# Altium schematic symbol library MCU 8Bit AVR Tiny.SchLib: 47 symbols
Pins are listed as number, name and electrical type; pins without a type are passive.

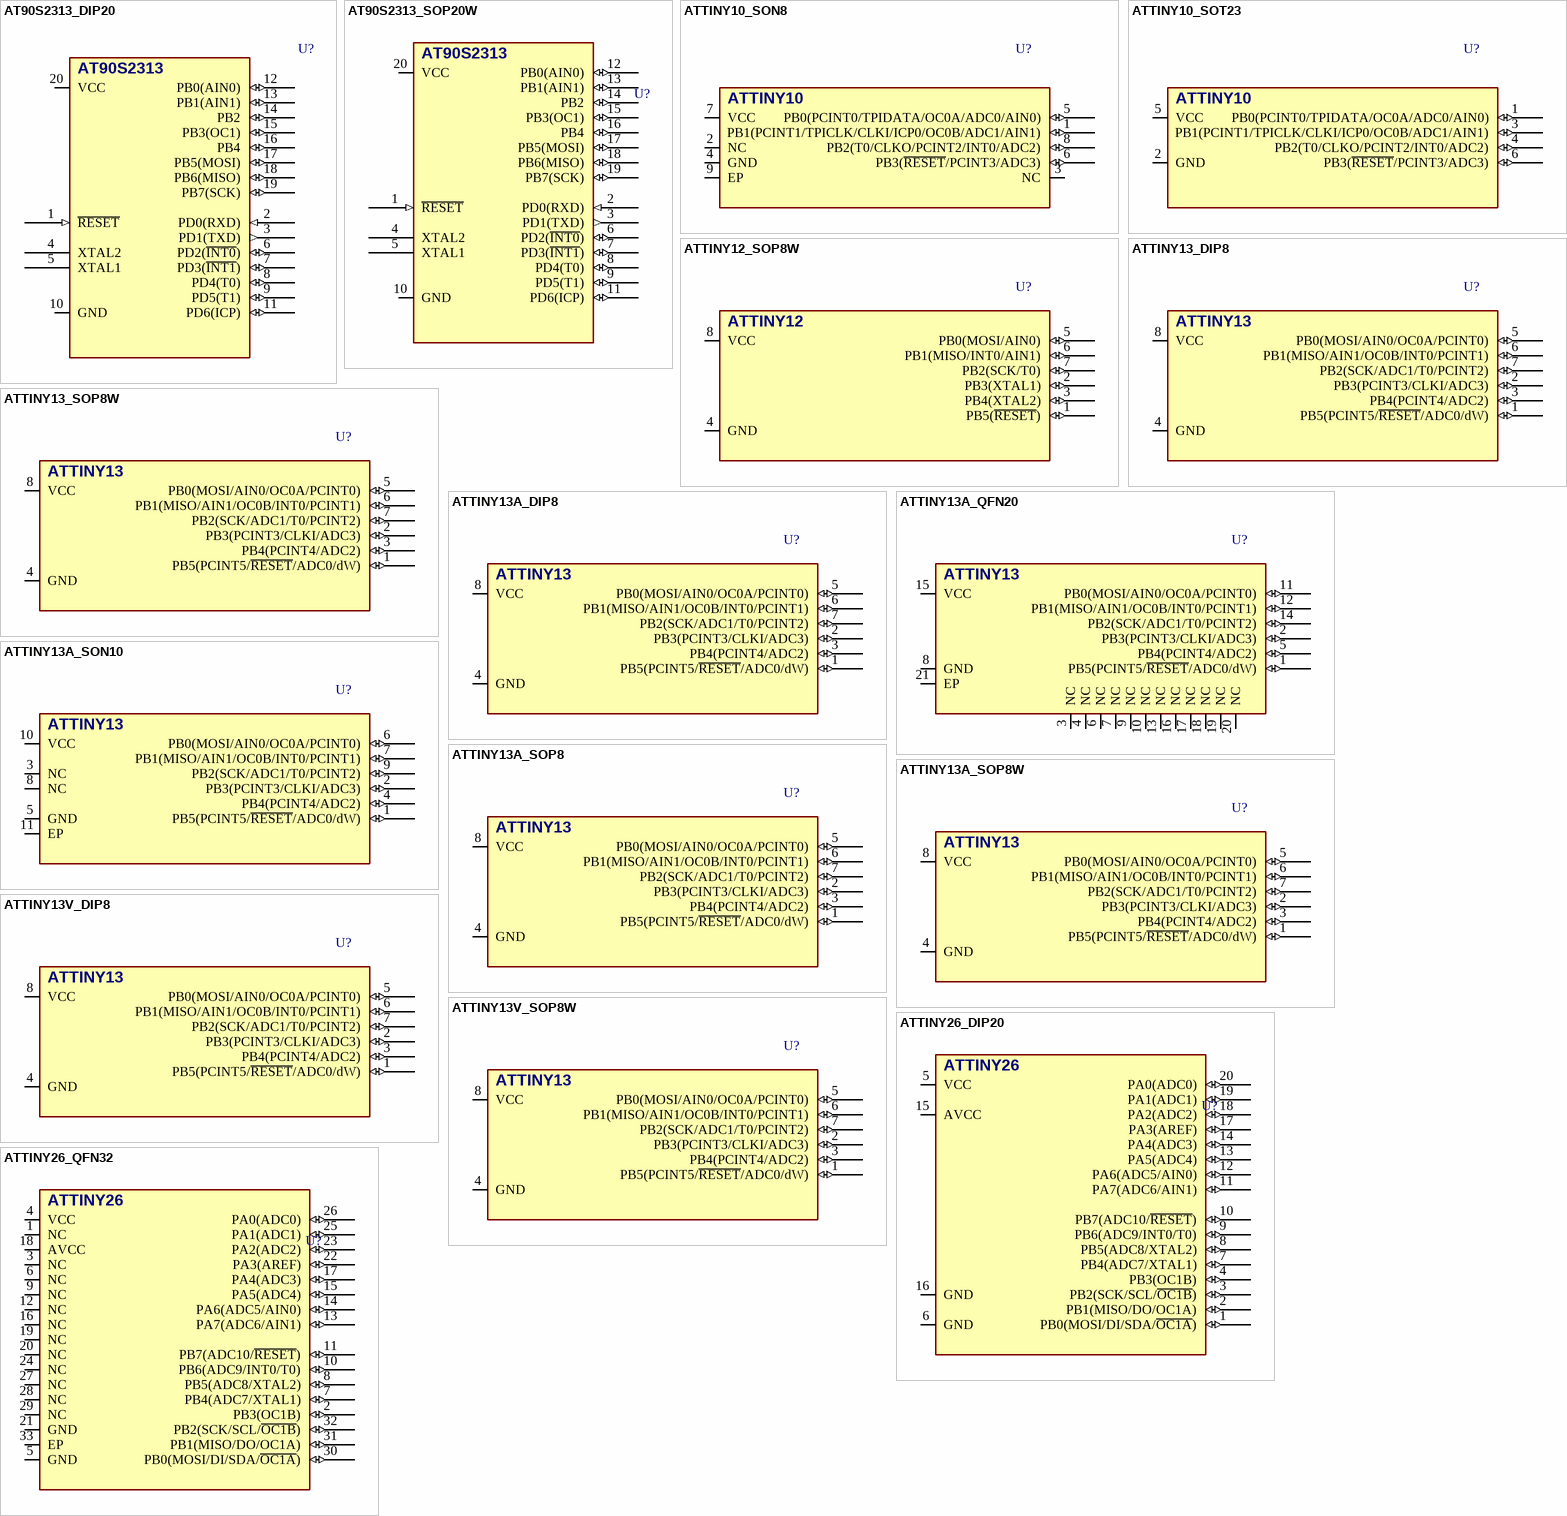
[diagram p0: symbols AT90S2313_DIP20 to ATTINY26_QFN32]

## AT90S2313_DIP20
designator U?, comment AT90S2313  (value not drawn)
MCU, AVR, 8-Bit, 2KB, 128B RAM, 10MHz; MANF_P#: AT90S2313-10PI; DESC: AT90S1200, ATTINY26; MANF: ATMEL/MICROCHIP; PARAM2: 4~6V; PARAM: 2KB flash, 4KB, 128B RAM, -40~85°C; PRICE: Obsolete; VALUE: AT90S2313
footprint DIP_20 (DIP, pitch 2.54mm, 300mil Width)
pins: 1 ~{RESET} (in), 2 PD0(RXD) (in), 3 PD1(TXD) (out), 4 XTAL2, 5 XTAL1, 6 PD2(~{INT0}) (io), 7 PD3(~{INT1}) (io), 8 PD4(T0) (io), 9 PD5(T1) (io), 10 GND (power), 11 PD6(ICP) (io), 12 PB0(AIN0) (io), 13 PB1(AIN1) (io), 14 PB2 (io), 15 PB3(OC1) (io), 16 PB4 (io), 17 PB5(MOSI) (io), 18 PB6(MISO) (io), 19 PB7(SCK) (io), 20 VCC (power)

## AT90S2313_SOP20W
designator U?, comment AT90S2313  (value not drawn)
MCU, AVR, 8-Bit, 2KB, 128B RAM, 10MHz; MANF_P#: AT90S2313-10SC; DESC: AT90S1200, ATTINY26; MANF: ATMEL/MICROCHIP; PARAM2: 4~6V; PARAM: 2KB flash, 4KB, 128B RAM, 0~70°C; PRICE: Obsolete; VALUE: AT90S2313
footprint SO_20_W
pins: 1 ~{RESET} (in), 2 PD0(RXD) (in), 3 PD1(TXD) (out), 4 XTAL2, 5 XTAL1, 6 PD2(~{INT0}) (io), 7 PD3(~{INT1}) (io), 8 PD4(T0) (io), 9 PD5(T1) (io), 10 GND (power), 11 PD6(ICP) (io), 12 PB0(AIN0) (io), 13 PB1(AIN1) (io), 14 PB2 (io), 15 PB3(OC1) (io), 16 PB4 (io), 17 PB5(MOSI) (io), 18 PB6(MISO) (io), 19 PB7(SCK) (io), 20 VCC (power)

## ATTINY10_SON8
designator U?, comment ATTINY10  (value not drawn)
MCU, AVR, 8-Bit, 1KB, 32B RAM, 12MHz; MANF_P#: ATTINY10-MAHR; MANF: ATMEL/MICROCHIP; PARAM2: 1.8~5.5V; PARAM: 1KB, 32B RAM, -40~125°C; PRICE: 0.6$; VALUE: ATTINY10
footprint SON50_8T_2X2 (DSG PWSON (TI), Pitch: 0.5mm 2x2x0.8mm with Thermal pad)
pins: 1 PB1(PCINT1/TPICLK/CLKI/ICP0/OC0B/ADC1/AIN1) (io), 2 NC (power), 3 NC (power), 4 GND (power), 5 PB0(PCINT0/TPIDATA/OC0A/ADC0/AIN0) (io), 6 PB3(~{RESET}/PCINT3/ADC3) (io), 7 VCC (power), 8 PB2(T0/CLKO/PCINT2/INT0/ADC2) (io), 9 EP (power)

## ATTINY10_SOT23
designator U?, comment ATTINY10  (value not drawn)
MCU, AVR, 8-Bit, 1KB, 32B RAM, 12MHz; MANF_P#: ATTINY10-TSHR; MANF: ATMEL/MICROCHIP; PARAM2: 1.8~5.5V; PARAM: 1KB, 32B RAM, -40~85°C; PRICE: 0.35$; VALUE: ATTINY10
footprint SOT23_6 (SOT-23-6, MICRO6, SOT-26, SOT457, SuperSOT6, TSOP-6, HMC313, MO-178AB, MO-193AA, TSOT)
pins: 1 PB0(PCINT0/TPIDATA/OC0A/ADC0/AIN0) (io), 2 GND (power), 3 PB1(PCINT1/TPICLK/CLKI/ICP0/OC0B/ADC1/AIN1) (io), 4 PB2(T0/CLKO/PCINT2/INT0/ADC2) (io), 5 VCC (power), 6 PB3(~{RESET}/PCINT3/ADC3) (io)

## ATTINY12_SOP8W
designator U?, comment ATTINY12  (value not drawn)
MCU, AVR, 8-Bit, 1KB, 64B RAM, 8MHz; MANF_P#: ATTINY12-8SU; MANF: ATMEL/MICROCHIP; PARAM2: 4~5.5V; PARAM: 1KB, 64B RAM, -40~125°C; PRICE: 1.2$; VALUE: ATTINY12
footprint SO_8_W (SOIC Width, 5x5.3mm body 0.5mm pitch, 5.28mm SOIJ)
pins: 1 PB5(~{RESET}) (io), 2 PB3(XTAL1) (io), 3 PB4(XTAL2) (io), 4 GND (power), 5 PB0(MOSI/AIN0) (io), 6 PB1(MISO/INT0/AIN1) (io), 7 PB2(SCK/T0) (io), 8 VCC (power)

## ATTINY13_DIP8
designator U?, comment ATTINY13  (value not drawn)
MCU, AVR, 8-Bit, 1KB, 64B RAM, 20MHz; MANF_P#: ATTINY13-20PU; MANF: ATMEL/MICROCHIP; PARAM2: 2.7~5.5V; PARAM: 1KB, 64B RAM, -40~85°C; PRICE: 1.2$; VALUE: ATTINY13
footprint DIP_8 (DIP, pitch 2.54mm, 300mil Width)
pins: 1 PB5(PCINT5/~{RESET}/ADC0/dW) (io), 2 PB3(PCINT3/CLKI/ADC3) (io), 3 PB4(PCINT4/ADC2) (io), 4 GND (power), 5 PB0(MOSI/AIN0/OC0A/PCINT0) (io), 6 PB1(MISO/AIN1/OC0B/INT0/PCINT1) (io), 7 PB2(SCK/ADC1/T0/PCINT2) (io), 8 VCC (power)

## ATTINY13_SOP8W
designator U?, comment ATTINY13  (value not drawn)
MCU, AVR, 8-Bit, 1KB, 64B RAM, 20MHz; MANF_P#: ATTINY13-20SU; MANF: ATMEL/MICROCHIP; PARAM2: 2.7~5.5V; PARAM: 1KB, 64B RAM, -40~85°C; PRICE: 0.9$; VALUE: ATTINY13
footprint SO_8_W (SOIC Width, 5x5.3mm body 0.5mm pitch, 5.28mm SOIJ)
pins: 1 PB5(PCINT5/~{RESET}/ADC0/dW) (io), 2 PB3(PCINT3/CLKI/ADC3) (io), 3 PB4(PCINT4/ADC2) (io), 4 GND (power), 5 PB0(MOSI/AIN0/OC0A/PCINT0) (io), 6 PB1(MISO/AIN1/OC0B/INT0/PCINT1) (io), 7 PB2(SCK/ADC1/T0/PCINT2) (io), 8 VCC (power)

## ATTINY13A_DIP8
designator U?, comment ATTINY13  (value not drawn)
MCU, AVR, 8-Bit, 1KB, 64B RAM, 20MHz; MANF_P#: ATTINY13A-PU; MANF: ATMEL/MICROCHIP; PARAM2: 1.8~5.5V; PARAM: 1KB, 64B RAM, -40~85°C; PRICE: 0.9$; VALUE: ATTINY13
footprint DIP_8 (DIP, pitch 2.54mm, 300mil Width)
pins: 1 PB5(PCINT5/~{RESET}/ADC0/dW) (io), 2 PB3(PCINT3/CLKI/ADC3) (io), 3 PB4(PCINT4/ADC2) (io), 4 GND (power), 5 PB0(MOSI/AIN0/OC0A/PCINT0) (io), 6 PB1(MISO/AIN1/OC0B/INT0/PCINT1) (io), 7 PB2(SCK/ADC1/T0/PCINT2) (io), 8 VCC (power)

## ATTINY13A_QFN20
designator U?, comment ATTINY13  (value not drawn)
MCU, AVR, 8-Bit, 1KB, 64B RAM, 20MHz; MANF_P#: ATTINY13A-MU; MANF: ATMEL/MICROCHIP; PARAM2: 1.8~5.5V; PARAM: 1KB, 64B RAM, -40~85°C; PRICE: 0.8$; VALUE: ATTINY13
footprint QFN50_20T (QFN, 20, 4X4mm, 0.5mm)
pins: 1 PB5(PCINT5/~{RESET}/ADC0/dW) (io), 2 PB3(PCINT3/CLKI/ADC3) (io), 3 NC, 4 NC, 5 PB4(PCINT4/ADC2) (io), 6 NC, 7 NC, 8 GND (power), 9 NC, 10 NC, 11 PB0(MOSI/AIN0/OC0A/PCINT0) (io), 12 PB1(MISO/AIN1/OC0B/INT0/PCINT1) (io), 13 NC, 14 PB2(SCK/ADC1/T0/PCINT2) (io), 15 VCC (power), 16 NC, 17 NC, 18 NC, 19 NC, 20 NC, 21 EP

## ATTINY13A_SON10
designator U?, comment ATTINY13  (value not drawn)
MCU, AVR, 8-Bit, 1KB, 64B RAM, 20MHz; MANF_P#: ATTINY13A-MMU; MANF: ATMEL/MICROCHIP; PARAM2: 1.8~5.5V; PARAM: 1KB, 64B RAM, -40~85°C; PRICE: 0.8$; VALUE: ATTINY13
footprint SON50_10T_3X3 (DRC SON(TI), 10 TDFN (MAXIM), 3X3mm, Pitch: 0.5mm with thermal pad)
pins: 1 PB5(PCINT5/~{RESET}/ADC0/dW) (io), 2 PB3(PCINT3/CLKI/ADC3) (io), 3 NC, 4 PB4(PCINT4/ADC2) (io), 5 GND (power), 6 PB0(MOSI/AIN0/OC0A/PCINT0) (io), 7 PB1(MISO/AIN1/OC0B/INT0/PCINT1) (io), 8 NC, 9 PB2(SCK/ADC1/T0/PCINT2) (io), 10 VCC (power), 11 EP

## ATTINY13A_SOP8
designator U?, comment ATTINY13  (value not drawn)
MCU, AVR, 8-Bit, 1KB, 64B RAM, 20MHz; MANF_P#: ATTINY13A-SSU, ATTINY13A-SSH; MANF: ATMEL/MICROCHIP; PARAM2: 1.8~5.5V; PARAM: 1KB, 64B RAM, -40~85°C; PRICE: 0.9$; VALUE: ATTINY13
footprint SO_8 (SOP-8, 5x3.9mm body 1.27mm pitch, SOT96-1, M08A, S8, SOIC8, VO8, MS-012AA(JEDEC), R-8, 8S2, VOG8)
pins: 1 PB5(PCINT5/~{RESET}/ADC0/dW) (io), 2 PB3(PCINT3/CLKI/ADC3) (io), 3 PB4(PCINT4/ADC2) (io), 4 GND (power), 5 PB0(MOSI/AIN0/OC0A/PCINT0) (io), 6 PB1(MISO/AIN1/OC0B/INT0/PCINT1) (io), 7 PB2(SCK/ADC1/T0/PCINT2) (io), 8 VCC (power)

## ATTINY13A_SOP8W
designator U?, comment ATTINY13  (value not drawn)
MCU, AVR, 8-Bit, 1KB, 64B RAM, 20MHz; MANF_P#: ATTINY13A-SU; MANF: ATMEL/MICROCHIP; PARAM2: 1.8~5.5V; PARAM: 1KB, 64B RAM, -40~85°C; PRICE: 0.9$; VALUE: ATTINY13
footprint SO_8_W (SOIC Width, 5x5.3mm body 0.5mm pitch, 5.28mm SOIJ)
pins: 1 PB5(PCINT5/~{RESET}/ADC0/dW) (io), 2 PB3(PCINT3/CLKI/ADC3) (io), 3 PB4(PCINT4/ADC2) (io), 4 GND (power), 5 PB0(MOSI/AIN0/OC0A/PCINT0) (io), 6 PB1(MISO/AIN1/OC0B/INT0/PCINT1) (io), 7 PB2(SCK/ADC1/T0/PCINT2) (io), 8 VCC (power)

## ATTINY13V_DIP8
designator U?, comment ATTINY13  (value not drawn)
MCU, AVR, 8-Bit, 1KB, 64B RAM, 10MHz; MANF_P#: ATTINY13V-10PU; MANF: ATMEL/MICROCHIP; PARAM2: 1.8~5.5V; PARAM: 1KB, 64B RAM, -40~85°C; PRICE: 1.2$; VALUE: ATTINY13
footprint DIP_8 (DIP, pitch 2.54mm, 300mil Width)
pins: 1 PB5(PCINT5/~{RESET}/ADC0/dW) (io), 2 PB3(PCINT3/CLKI/ADC3) (io), 3 PB4(PCINT4/ADC2) (io), 4 GND (power), 5 PB0(MOSI/AIN0/OC0A/PCINT0) (io), 6 PB1(MISO/AIN1/OC0B/INT0/PCINT1) (io), 7 PB2(SCK/ADC1/T0/PCINT2) (io), 8 VCC (power)

## ATTINY13V_SOP8W
designator U?, comment ATTINY13  (value not drawn)
MCU, AVR, 8-Bit, 1KB, 64B RAM, 10MHz; MANF_P#: ATTINY13V-10SU; MANF: ATMEL/MICROCHIP; PARAM2: 1.8~5.5V; PARAM: 1KB, 64B RAM, -40~85°C; PRICE: 0.9$; VALUE: ATTINY13
footprint SO_8_W (SOIC Width, 5x5.3mm body 0.5mm pitch, 5.28mm SOIJ)
pins: 1 PB5(PCINT5/~{RESET}/ADC0/dW) (io), 2 PB3(PCINT3/CLKI/ADC3) (io), 3 PB4(PCINT4/ADC2) (io), 4 GND (power), 5 PB0(MOSI/AIN0/OC0A/PCINT0) (io), 6 PB1(MISO/AIN1/OC0B/INT0/PCINT1) (io), 7 PB2(SCK/ADC1/T0/PCINT2) (io), 8 VCC (power)

## ATTINY26_DIP20
designator U?, comment ATTINY26  (value not drawn)
MCU, AVR, 8-Bit, 2KB, 128B RAM, 16MHz; MANF_P#: ATTINY26-16PU; MANF: ATMEL/MICROCHIP; PARAM2: 4.5~5.5V; PARAM: 2KB flash, 128B RAM, -40~85°C; PRICE: 2$; VALUE: ATTINY26
footprint DIP_20 (DIP, pitch 2.54mm, 300mil Width)
pins: 1 PB0(MOSI/DI/SDA/~{OC1A}) (io), 2 PB1(MISO/DO/OC1A) (io), 3 PB2(SCK/SCL/~{OC1B}) (io), 4 PB3(OC1B) (io), 5 VCC (power), 6 GND (power), 7 PB4(ADC7/XTAL1) (io), 8 PB5(ADC8/XTAL2) (io), 9 PB6(ADC9/INT0/T0) (io), 10 PB7(ADC10/~{RESET}) (io), 11 PA7(ADC6/AIN1) (io), 12 PA6(ADC5/AIN0) (io), 13 PA5(ADC4) (io), 14 PA4(ADC3) (io), 15 AVCC (power), 16 GND (power), 17 PA3(AREF) (io), 18 PA2(ADC2) (io), 19 PA1(ADC1) (io), 20 PA0(ADC0) (io)

## ATTINY26_QFN32
designator U?, comment ATTINY26  (value not drawn)
MCU, AVR, 8-Bit, 2KB, 128B RAM, 16MHz; MANF_P#: ATTINY26-16MU; MANF: ATMEL/MICROCHIP; PARAM2: 4.5~5.5V; PARAM: 2KB flash, 128B RAM, -40~85°C; PRICE: 2$; VALUE: ATTINY26
footprint QFN50_32T (QFN, 32, 5X5mm, 0.5mm)
pins: 1 NC (power), 2 PB3(OC1B) (io), 3 NC (power), 4 VCC (power), 5 GND (power), 6 NC (power), 7 PB4(ADC7/XTAL1) (io), 8 PB5(ADC8/XTAL2) (io), 9 NC (power), 10 PB6(ADC9/INT0/T0) (io), 11 PB7(ADC10/~{RESET}) (io), 12 NC (power), 13 PA7(ADC6/AIN1) (io), 14 PA6(ADC5/AIN0) (io), 15 PA5(ADC4) (io), 16 NC (power), 17 PA4(ADC3) (io), 18 AVCC (power), 19 NC (power), 20 NC (power), 21 GND (power), 22 PA3(AREF) (io), 23 PA2(ADC2) (io), 24 NC (power), 25 PA1(ADC1) (io), 26 PA0(ADC0) (io), 27 NC (power), 28 NC (power), 29 NC (power), 30 PB0(MOSI/DI/SDA/~{OC1A}) (io), 31 PB1(MISO/DO/OC1A) (io), 32 PB2(SCK/SCL/~{OC1B}) (io), 33 EP

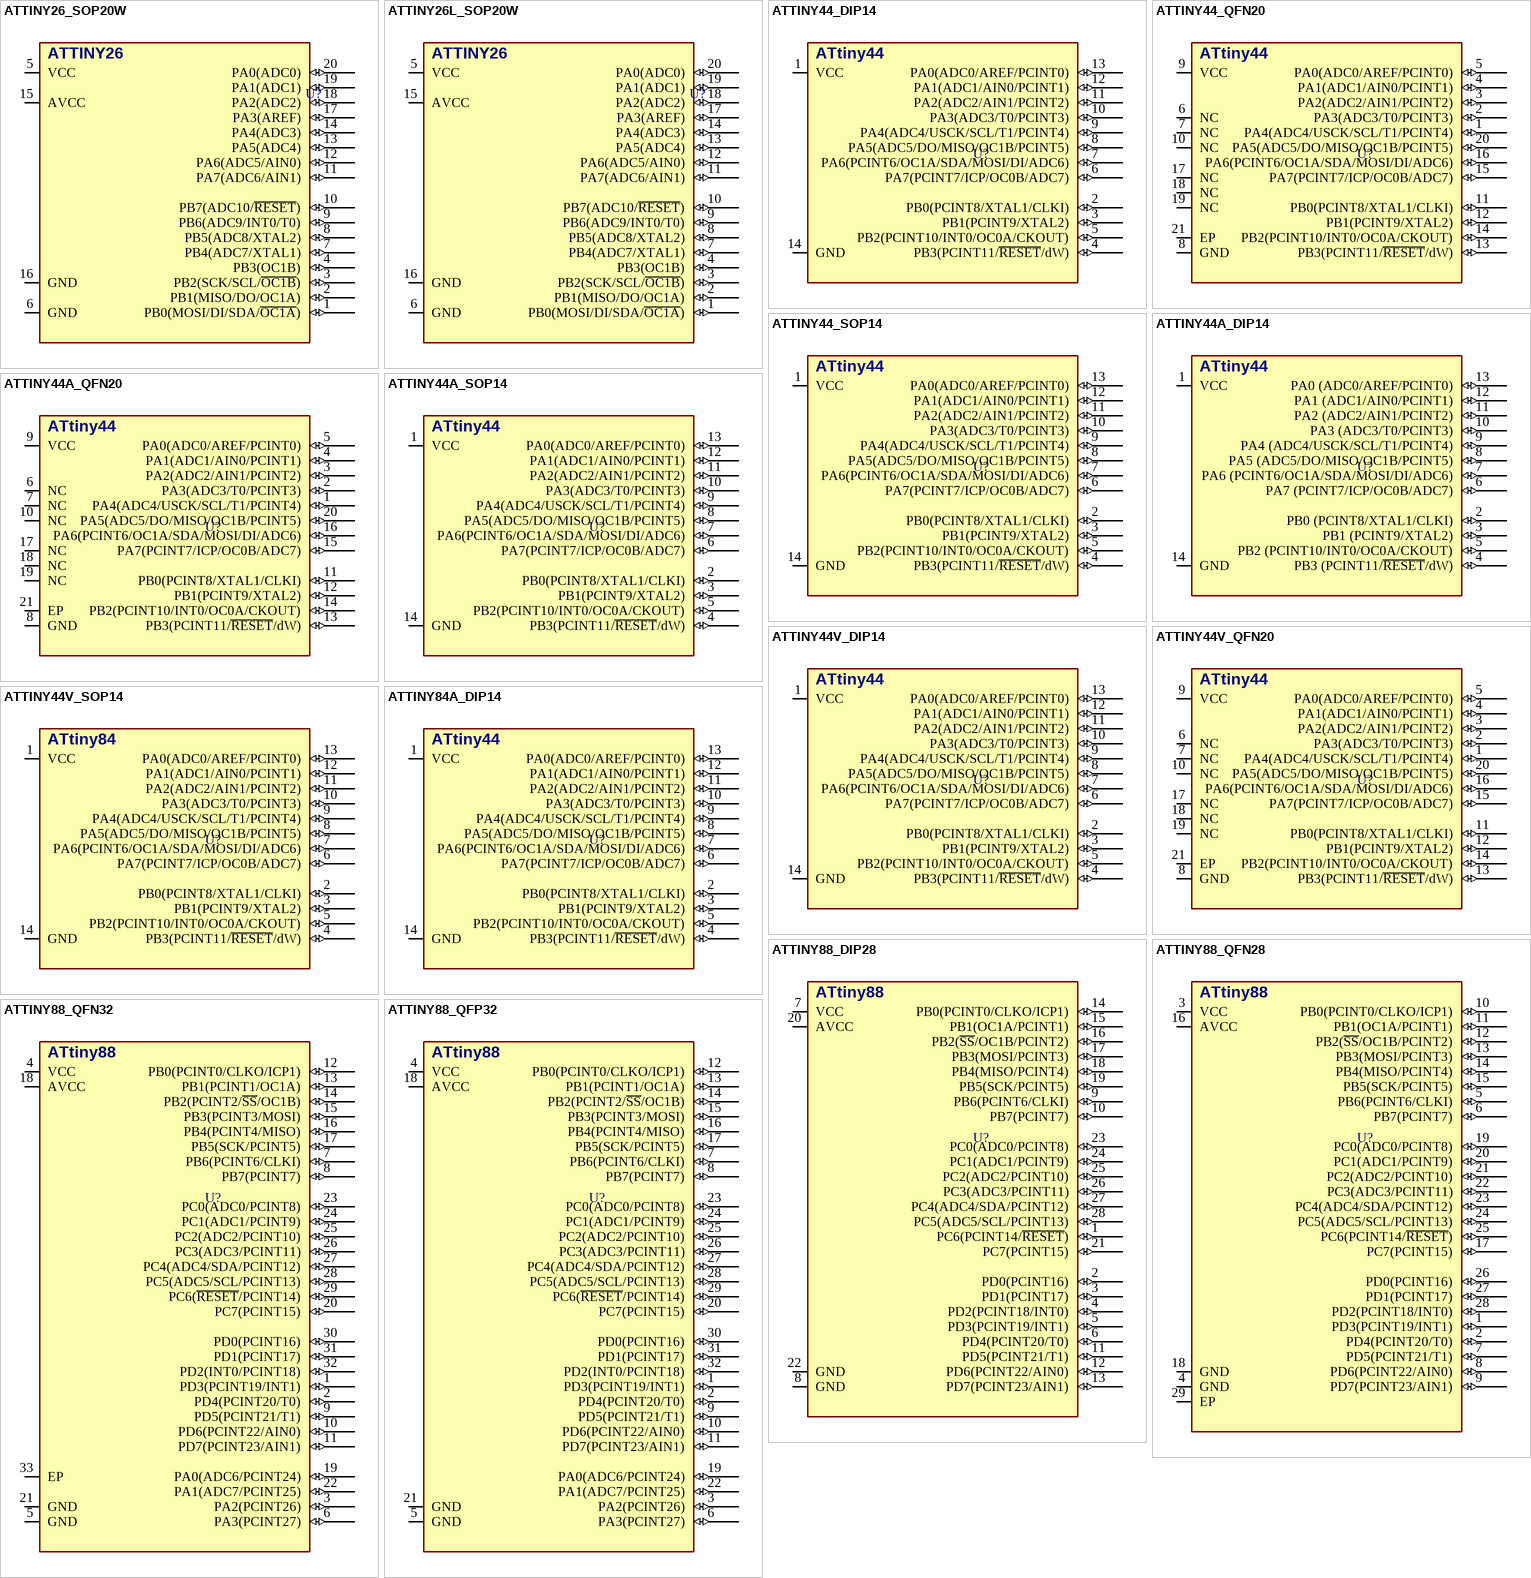
[diagram p1: symbols ATTINY26_SOP20W to ATTINY88_QFP32]

## ATTINY26_SOP20W
designator U?, comment ATTINY26  (value not drawn)
MCU, AVR, 8-Bit, 2KB, 128B RAM, 16MHz; MANF_P#: ATTINY26-16SU; MANF: ATMEL/MICROCHIP; PARAM2: 4.5~5.5V; PARAM: 2KB flash, 128B RAM, -40~85°C; PRICE: 2$; VALUE: ATTINY26
footprint SO_20_W (SOP, SOIC, 7.5mm width, 1.27mm pitch,)
pins: 1 PB0(MOSI/DI/SDA/~{OC1A}) (io), 2 PB1(MISO/DO/OC1A) (io), 3 PB2(SCK/SCL/~{OC1B}) (io), 4 PB3(OC1B) (io), 5 VCC (power), 6 GND (power), 7 PB4(ADC7/XTAL1) (io), 8 PB5(ADC8/XTAL2) (io), 9 PB6(ADC9/INT0/T0) (io), 10 PB7(ADC10/~{RESET}) (io), 11 PA7(ADC6/AIN1) (io), 12 PA6(ADC5/AIN0) (io), 13 PA5(ADC4) (io), 14 PA4(ADC3) (io), 15 AVCC (power), 16 GND (power), 17 PA3(AREF) (io), 18 PA2(ADC2) (io), 19 PA1(ADC1) (io), 20 PA0(ADC0) (io)

## ATTINY26L_SOP20W
designator U?, comment ATTINY26  (value not drawn)
MCU, AVR, 8-Bit, 2KB, 128B RAM, 8MHz; MANF_P#: ATTINY26L-8SU; MANF: ATMEL/MICROCHIP; PARAM2: 2.7~5.5V; PARAM: 2KB flash, 128B RAM, -40~85°C; PRICE: 2$; VALUE: ATTINY26
footprint SO_20_W (SOP, SOIC, 7.5mm width, 1.27mm pitch,)
pins: 1 PB0(MOSI/DI/SDA/~{OC1A}) (io), 2 PB1(MISO/DO/OC1A) (io), 3 PB2(SCK/SCL/~{OC1B}) (io), 4 PB3(OC1B) (io), 5 VCC (power), 6 GND (power), 7 PB4(ADC7/XTAL1) (io), 8 PB5(ADC8/XTAL2) (io), 9 PB6(ADC9/INT0/T0) (io), 10 PB7(ADC10/~{RESET}) (io), 11 PA7(ADC6/AIN1) (io), 12 PA6(ADC5/AIN0) (io), 13 PA5(ADC4) (io), 14 PA4(ADC3) (io), 15 AVCC (power), 16 GND (power), 17 PA3(AREF) (io), 18 PA2(ADC2) (io), 19 PA1(ADC1) (io), 20 PA0(ADC0) (io)

## ATTINY44_DIP14
designator U?, comment ATTINY44  (value not drawn)
MCU, AVR, 8-Bit, 4KB, 256B RAM, 20MHz; MANF_P#: ATTINY44-20PU; MANF: ATMEL/MICROCHIP; PARAM2: 2.7~5.5V; PARAM: 4KB, 256B RAM, -40~85°C; PRICE: 1.8$; VALUE: ATTINY44
footprint DIP_14 (DIP, pitch 2.54mm, 300mil Width)
pins: 1 VCC (power), 2 PB0(PCINT8/XTAL1/CLKI) (io), 3 PB1(PCINT9/XTAL2) (io), 4 PB3(PCINT11/~{RESET}/dW) (io), 5 PB2(PCINT10/INT0/OC0A/CKOUT) (io), 6 PA7(PCINT7/ICP/OC0B/ADC7) (io), 7 PA6(PCINT6/OC1A/SDA/MOSI/DI/ADC6) (io), 8 PA5(ADC5/DO/MISO/OC1B/PCINT5) (io), 9 PA4(ADC4/USCK/SCL/T1/PCINT4) (io), 10 PA3(ADC3/T0/PCINT3) (io), 11 PA2(ADC2/AIN1/PCINT2) (io), 12 PA1(ADC1/AIN0/PCINT1) (io), 13 PA0(ADC0/AREF/PCINT0) (io), 14 GND (power)
text: ATtiny44

## ATTINY44_QFN20
designator U?, comment ATTINY44  (value not drawn)
MCU, AVR, 8-Bit, 4KB, 256B RAM, 20MHz; MANF_P#: ATTINY44-20MU; MANF: ATMEL/MICROCHIP; PARAM2: 2.7~5.5V; PARAM: 4KB, 256B RAM, -40~85°C; PRICE: 1.8$; VALUE: ATTINY44
footprint QFN50_20T (QFN, 20, 4X4mm, 0.5mm)
pins: 1 PA4(ADC4/USCK/SCL/T1/PCINT4) (io), 2 PA3(ADC3/T0/PCINT3) (io), 3 PA2(ADC2/AIN1/PCINT2) (io), 4 PA1(ADC1/AIN0/PCINT1) (io), 5 PA0(ADC0/AREF/PCINT0) (io), 6 NC, 7 NC, 8 GND (power), 9 VCC (power), 10 NC, 11 PB0(PCINT8/XTAL1/CLKI) (io), 12 PB1(PCINT9/XTAL2) (io), 13 PB3(PCINT11/~{RESET}/dW) (io), 14 PB2(PCINT10/INT0/OC0A/CKOUT) (io), 15 PA7(PCINT7/ICP/OC0B/ADC7) (io), 16 PA6(PCINT6/OC1A/SDA/MOSI/DI/ADC6) (io), 17 NC, 18 NC, 19 NC, 20 PA5(ADC5/DO/MISO/OC1B/PCINT5) (io), 21 EP (power)
text: ATtiny44

## ATTINY44_SOP14
designator U?, comment ATTINY44  (value not drawn)
MCU, AVR, 8-Bit, 4KB, 256B RAM, 20MHz; MANF_P#: ATTINY44-20SSU; MANF: ATMEL/MICROCHIP; PARAM2: 2.7~5.5V; PARAM: 4KB, 256B RAM, -40~85°C; PRICE: 1.8$; VALUE: ATTINY44
footprint SO_14 (SOP, SOIC, 3.9mm width, 1.27mm pitch,)
pins: 1 VCC (power), 2 PB0(PCINT8/XTAL1/CLKI) (io), 3 PB1(PCINT9/XTAL2) (io), 4 PB3(PCINT11/~{RESET}/dW) (io), 5 PB2(PCINT10/INT0/OC0A/CKOUT) (io), 6 PA7(PCINT7/ICP/OC0B/ADC7) (io), 7 PA6(PCINT6/OC1A/SDA/MOSI/DI/ADC6) (io), 8 PA5(ADC5/DO/MISO/OC1B/PCINT5) (io), 9 PA4(ADC4/USCK/SCL/T1/PCINT4) (io), 10 PA3(ADC3/T0/PCINT3) (io), 11 PA2(ADC2/AIN1/PCINT2) (io), 12 PA1(ADC1/AIN0/PCINT1) (io), 13 PA0(ADC0/AREF/PCINT0) (io), 14 GND (power)
text: ATtiny44

## ATTINY44A_DIP14
designator U?, comment ATTINY44  (value not drawn)
MCU, AVR, 8-Bit, 4KB, 256B RAM, 20MHz; MANF_P#: ATTINY44A-PU; MANF: ATMEL/MICROCHIP; PARAM2: 1.8~5.5V; PARAM: 4KB, 256B RAM, -40~85°C; PRICE: 1.1$; VALUE: ATTINY44
footprint DIP_14 (DIP, pitch 2.54mm, 300mil Width)
pins: 1 VCC (power), 2 PB0 (PCINT8/XTAL1/CLKI) (io), 3 PB1 (PCINT9/XTAL2) (io), 4 PB3 (PCINT11/~{RESET}/dW) (io), 5 PB2 (PCINT10/INT0/OC0A/CKOUT) (io), 6 PA7 (PCINT7/ICP/OC0B/ADC7) (io), 7 PA6 (PCINT6/OC1A/SDA/MOSI/DI/ADC6) (io), 8 PA5 (ADC5/DO/MISO/OC1B/PCINT5) (io), 9 PA4 (ADC4/USCK/SCL/T1/PCINT4) (io), 10 PA3 (ADC3/T0/PCINT3) (io), 11 PA2 (ADC2/AIN1/PCINT2) (io), 12 PA1 (ADC1/AIN0/PCINT1) (io), 13 PA0 (ADC0/AREF/PCINT0) (io), 14 GND (power)
text: ATtiny44

## ATTINY44A_QFN20
designator U?, comment ATTINY44  (value not drawn)
MCU, AVR, 8-Bit, 4KB, 256B RAM, 20MHz; MANF_P#: ATTINY44A-MU; MANF: ATMEL/MICROCHIP; PARAM2: 1.8~5.5V; PARAM: 4KB, 256B RAM, -40~85°C; PRICE: 0.8$; VALUE: ATTINY44
footprint QFN50_20T (QFN, 20, 4X4mm, 0.5mm)
pins: 1 PA4(ADC4/USCK/SCL/T1/PCINT4) (io), 2 PA3(ADC3/T0/PCINT3) (io), 3 PA2(ADC2/AIN1/PCINT2) (io), 4 PA1(ADC1/AIN0/PCINT1) (io), 5 PA0(ADC0/AREF/PCINT0) (io), 6 NC, 7 NC, 8 GND (power), 9 VCC (power), 10 NC, 11 PB0(PCINT8/XTAL1/CLKI) (io), 12 PB1(PCINT9/XTAL2) (io), 13 PB3(PCINT11/~{RESET}/dW) (io), 14 PB2(PCINT10/INT0/OC0A/CKOUT) (io), 15 PA7(PCINT7/ICP/OC0B/ADC7) (io), 16 PA6(PCINT6/OC1A/SDA/MOSI/DI/ADC6) (io), 17 NC, 18 NC, 19 NC, 20 PA5(ADC5/DO/MISO/OC1B/PCINT5) (io), 21 EP (power)
text: ATtiny44

## ATTINY44A_SOP14
designator U?, comment ATTINY44  (value not drawn)
MCU, AVR, 8-Bit, 4KB, 256B RAM, 20MHz; MANF_P#: ATTINY44A-SSU; MANF: ATMEL/MICROCHIP; PARAM2: 1.8~5.5V; PARAM: 4KB, 256B RAM, -40~85°C; PRICE: 0.8$; VALUE: ATTINY44
footprint SO_14 (SOP, SOIC, 3.9mm width, 1.27mm pitch,)
pins: 1 VCC (power), 2 PB0(PCINT8/XTAL1/CLKI) (io), 3 PB1(PCINT9/XTAL2) (io), 4 PB3(PCINT11/~{RESET}/dW) (io), 5 PB2(PCINT10/INT0/OC0A/CKOUT) (io), 6 PA7(PCINT7/ICP/OC0B/ADC7) (io), 7 PA6(PCINT6/OC1A/SDA/MOSI/DI/ADC6) (io), 8 PA5(ADC5/DO/MISO/OC1B/PCINT5) (io), 9 PA4(ADC4/USCK/SCL/T1/PCINT4) (io), 10 PA3(ADC3/T0/PCINT3) (io), 11 PA2(ADC2/AIN1/PCINT2) (io), 12 PA1(ADC1/AIN0/PCINT1) (io), 13 PA0(ADC0/AREF/PCINT0) (io), 14 GND (power)
text: ATtiny44

## ATTINY44V_DIP14
designator U?, comment ATTINY44  (value not drawn)
MCU, AVR, 8-Bit, 4KB, 256B RAM, 10MHz; MANF_P#: ATTINY44V-10PU; MANF: ATMEL/MICROCHIP; PARAM2: 1.8~5.5V; PARAM: 4KB, 256B RAM, -40~85°C; PRICE: 1.8$; VALUE: ATTINY44
footprint DIP_14 (DIP, pitch 2.54mm, 300mil Width)
pins: 1 VCC (power), 2 PB0(PCINT8/XTAL1/CLKI) (io), 3 PB1(PCINT9/XTAL2) (io), 4 PB3(PCINT11/~{RESET}/dW) (io), 5 PB2(PCINT10/INT0/OC0A/CKOUT) (io), 6 PA7(PCINT7/ICP/OC0B/ADC7) (io), 7 PA6(PCINT6/OC1A/SDA/MOSI/DI/ADC6) (io), 8 PA5(ADC5/DO/MISO/OC1B/PCINT5) (io), 9 PA4(ADC4/USCK/SCL/T1/PCINT4) (io), 10 PA3(ADC3/T0/PCINT3) (io), 11 PA2(ADC2/AIN1/PCINT2) (io), 12 PA1(ADC1/AIN0/PCINT1) (io), 13 PA0(ADC0/AREF/PCINT0) (io), 14 GND (power)
text: ATtiny44

## ATTINY44V_QFN20
designator U?, comment ATTINY44  (value not drawn)
MCU, AVR, 8-Bit, 4KB, 256B RAM, 10MHz; MANF_P#: ATTINY44V-10MU; MANF: ATMEL/MICROCHIP; PARAM2: 1.8~5.5V; PARAM: 4KB, 256B RAM, -40~85°C; PRICE: 1.8$; VALUE: ATTINY44
footprint QFN50_20T (QFN, 20, 4X4mm, 0.5mm)
pins: 1 PA4(ADC4/USCK/SCL/T1/PCINT4) (io), 2 PA3(ADC3/T0/PCINT3) (io), 3 PA2(ADC2/AIN1/PCINT2) (io), 4 PA1(ADC1/AIN0/PCINT1) (io), 5 PA0(ADC0/AREF/PCINT0) (io), 6 NC, 7 NC, 8 GND (power), 9 VCC (power), 10 NC, 11 PB0(PCINT8/XTAL1/CLKI) (io), 12 PB1(PCINT9/XTAL2) (io), 13 PB3(PCINT11/~{RESET}/dW) (io), 14 PB2(PCINT10/INT0/OC0A/CKOUT) (io), 15 PA7(PCINT7/ICP/OC0B/ADC7) (io), 16 PA6(PCINT6/OC1A/SDA/MOSI/DI/ADC6) (io), 17 NC, 18 NC, 19 NC, 20 PA5(ADC5/DO/MISO/OC1B/PCINT5) (io), 21 EP (power)
text: ATtiny44

## ATTINY44V_SOP14
designator U?, comment ATTINY44  (value not drawn)
MCU, AVR, 8-Bit, 4KB, 256B RAM, 10MHz; MANF_P#: ATTINY44V-10SSU; MANF: ATMEL/MICROCHIP; PARAM2: 1.8~5.5V; PARAM: 4KB, 256B RAM, -40~85°C; PRICE: 1.8$; VALUE: ATTINY44
footprint SO_14 (SOP, SOIC, 3.9mm width, 1.27mm pitch,)
pins: 1 VCC (power), 2 PB0(PCINT8/XTAL1/CLKI) (io), 3 PB1(PCINT9/XTAL2) (io), 4 PB3(PCINT11/~{RESET}/dW) (io), 5 PB2(PCINT10/INT0/OC0A/CKOUT) (io), 6 PA7(PCINT7/ICP/OC0B/ADC7) (io), 7 PA6(PCINT6/OC1A/SDA/MOSI/DI/ADC6) (io), 8 PA5(ADC5/DO/MISO/OC1B/PCINT5) (io), 9 PA4(ADC4/USCK/SCL/T1/PCINT4) (io), 10 PA3(ADC3/T0/PCINT3) (io), 11 PA2(ADC2/AIN1/PCINT2) (io), 12 PA1(ADC1/AIN0/PCINT1) (io), 13 PA0(ADC0/AREF/PCINT0) (io), 14 GND (power)
text: ATtiny84

## ATTINY84A_DIP14
designator U?, comment ATTINY84  (value not drawn)
MCU, AVR, 8-Bit, 8KB, 512B RAM, 20MHz; MANF_P#: ATTINY84A-PU; MANF: ATMEL/MICROCHIP; PARAM2: 1.8~5.5V; PARAM: 8KB, 512B RAM, -40~85°C; PRICE: 1.1$; VALUE: ATTINY84
footprint DIP_14 (DIP, pitch 2.54mm, 300mil Width)
pins: 1 VCC (power), 2 PB0(PCINT8/XTAL1/CLKI) (io), 3 PB1(PCINT9/XTAL2) (io), 4 PB3(PCINT11/~{RESET}/dW) (io), 5 PB2(PCINT10/INT0/OC0A/CKOUT) (io), 6 PA7(PCINT7/ICP/OC0B/ADC7) (io), 7 PA6(PCINT6/OC1A/SDA/MOSI/DI/ADC6) (io), 8 PA5(ADC5/DO/MISO/OC1B/PCINT5) (io), 9 PA4(ADC4/USCK/SCL/T1/PCINT4) (io), 10 PA3(ADC3/T0/PCINT3) (io), 11 PA2(ADC2/AIN1/PCINT2) (io), 12 PA1(ADC1/AIN0/PCINT1) (io), 13 PA0(ADC0/AREF/PCINT0) (io), 14 GND (power)
text: ATtiny44

## ATTINY88_DIP28
designator U?, comment ATTINY88  (value not drawn)
MCU, AVR, 8-Bit, 8KB, 512B RAM, 12MHz; MANF_P#: ATTINY88-PU; MANF: ATMEL/MICROCHIP; PARAM2: 1.8~5.5V; PARAM: 8KB, 512B RAM, -40~85°C; PRICE: 1.7$; VALUE: ATTINY88
footprint DIP_28 (DIP, pitch 2.54mm, 300mil Width)
pins: 1 PC6(PCINT14/~{RESET}) (io), 2 PD0(PCINT16) (io), 3 PD1(PCINT17) (io), 4 PD2(PCINT18/INT0) (io), 5 PD3(PCINT19/INT1) (io), 6 PD4(PCINT20/T0) (io), 7 VCC (power), 8 GND (power), 9 PB6(PCINT6/CLKI) (io), 10 PB7(PCINT7) (io), 11 PD5(PCINT21/T1) (io), 12 PD6(PCINT22/AIN0) (io), 13 PD7(PCINT23/AIN1) (io), 14 PB0(PCINT0/CLKO/ICP1) (io), 15 PB1(OC1A/PCINT1) (io), 16 PB2(~{SS}/OC1B/PCINT2) (io), 17 PB3(MOSI/PCINT3) (io), 18 PB4(MISO/PCINT4) (io), 19 PB5(SCK/PCINT5) (io), 20 AVCC (power), 21 PC7(PCINT15) (io), 22 GND (power), 23 PC0(ADC0/PCINT8) (io), 24 PC1(ADC1/PCINT9) (io), 25 PC2(ADC2/PCINT10) (io), 26 PC3(ADC3/PCINT11) (io), 27 PC4(ADC4/SDA/PCINT12) (io), 28 PC5(ADC5/SCL/PCINT13) (io)
text: ATtiny88

## ATTINY88_QFN28
designator U?, comment ATTINY88  (value not drawn)
MCU, AVR, 8-Bit, 8KB, 512B RAM, 12MHz; MANF_P#: ATTINY88-MMU, ATTINY88-MMH; MANF: ATMEL/MICROCHIP; PARAM2: 1.8~5.5V; PARAM: 8KB, 512B RAM, -40~85°C; PRICE: 0.9$; VALUE: ATTINY88
footprint QFN45_28T_4X4 (28M1, QFN-28, pitch:0.45mm 4x4x1mm)
pins: 1 PD3(PCINT19/INT1) (io), 2 PD4(PCINT20/T0) (io), 3 VCC (power), 4 GND (power), 5 PB6(PCINT6/CLKI) (io), 6 PB7(PCINT7) (io), 7 PD5(PCINT21/T1) (io), 8 PD6(PCINT22/AIN0) (io), 9 PD7(PCINT23/AIN1) (io), 10 PB0(PCINT0/CLKO/ICP1) (io), 11 PB1(OC1A/PCINT1) (io), 12 PB2(~{SS}/OC1B/PCINT2) (io), 13 PB3(MOSI/PCINT3) (io), 14 PB4(MISO/PCINT4) (io), 15 PB5(SCK/PCINT5) (io), 16 AVCC (power), 17 PC7(PCINT15) (io), 18 GND (power), 19 PC0(ADC0/PCINT8) (io), 20 PC1(ADC1/PCINT9) (io), 21 PC2(ADC2/PCINT10) (io), 22 PC3(ADC3/PCINT11) (io), 23 PC4(ADC4/SDA/PCINT12) (io), 24 PC5(ADC5/SCL/PCINT13) (io), 25 PC6(PCINT14/~{RESET}) (io), 26 PD0(PCINT16) (io), 27 PD1(PCINT17) (io), 28 PD2(PCINT18/INT0) (io), 29 EP
text: ATtiny88

## ATTINY88_QFN32
designator U?, comment ATTINY88  (value not drawn)
MCU, AVR, 8-Bit, 8KB, 512B RAM, 12MHz; MANF_P#: ATTINY88-MU; MANF: ATMEL/MICROCHIP; PARAM2: 1.8~5.5V; PARAM: 8KB, 512B RAM, -40~85°C; PRICE: 1$; VALUE: ATTINY88
footprint QFN50_32T (QFN, 32, 5X5mm, 0.5mm)
pins: 1 PD3(PCINT19/INT1) (io), 2 PD4(PCINT20/T0) (io), 3 PA2(PCINT26) (io), 4 VCC (power), 5 GND (power), 6 PA3(PCINT27) (io), 7 PB6(PCINT6/CLKI) (io), 8 PB7(PCINT7) (io), 9 PD5(PCINT21/T1) (io), 10 PD6(PCINT22/AIN0) (io), 11 PD7(PCINT23/AIN1) (io), 12 PB0(PCINT0/CLKO/ICP1) (io), 13 PB1(PCINT1/OC1A) (io), 14 PB2(PCINT2/~{SS}/OC1B) (io), 15 PB3(PCINT3/MOSI) (io), 16 PB4(PCINT4/MISO) (io), 17 PB5(SCK/PCINT5) (io), 18 AVCC (power), 19 PA0(ADC6/PCINT24) (io), 20 PC7(PCINT15) (io), 21 GND (power), 22 PA1(ADC7/PCINT25) (io), 23 PC0(ADC0/PCINT8) (io), 24 PC1(ADC1/PCINT9) (io), 25 PC2(ADC2/PCINT10) (io), 26 PC3(ADC3/PCINT11) (io), 27 PC4(ADC4/SDA/PCINT12) (io), 28 PC5(ADC5/SCL/PCINT13) (io), 29 PC6(~{RESET}/PCINT14) (io), 30 PD0(PCINT16) (io), 31 PD1(PCINT17) (io), 32 PD2(INT0/PCINT18) (io), 33 EP (power)
text: ATtiny88

## ATTINY88_QFP32
designator U?, comment ATTINY88  (value not drawn)
MCU, AVR, 8-Bit, 8KB, 512B RAM, 12MHz; MANF_P#: ATTINY88-AU; MANF: ATMEL/MICROCHIP; PARAM2: 1.8~5.5V; PARAM: 8KB, 512B RAM, -40~85°C; PRICE: 1$; VALUE: ATTINY88
footprint QFG80_32 (TQFP32, A32 (Cypress), GP32 (Zarlink), MS-026ABA(JEDEC), 7X7mm, 0.8mm)
pins: 1 PD3(PCINT19/INT1) (io), 2 PD4(PCINT20/T0) (io), 3 PA2(PCINT26) (io), 4 VCC (power), 5 GND (power), 6 PA3(PCINT27) (io), 7 PB6(PCINT6/CLKI) (io), 8 PB7(PCINT7) (io), 9 PD5(PCINT21/T1) (io), 10 PD6(PCINT22/AIN0) (io), 11 PD7(PCINT23/AIN1) (io), 12 PB0(PCINT0/CLKO/ICP1) (io), 13 PB1(PCINT1/OC1A) (io), 14 PB2(PCINT2/~{SS}/OC1B) (io), 15 PB3(PCINT3/MOSI) (io), 16 PB4(PCINT4/MISO) (io), 17 PB5(SCK/PCINT5) (io), 18 AVCC (power), 19 PA0(ADC6/PCINT24) (io), 20 PC7(PCINT15) (io), 21 GND (power), 22 PA1(ADC7/PCINT25) (io), 23 PC0(ADC0/PCINT8) (io), 24 PC1(ADC1/PCINT9) (io), 25 PC2(ADC2/PCINT10) (io), 26 PC3(ADC3/PCINT11) (io), 27 PC4(ADC4/SDA/PCINT12) (io), 28 PC5(ADC5/SCL/PCINT13) (io), 29 PC6(~{RESET}/PCINT14) (io), 30 PD0(PCINT16) (io), 31 PD1(PCINT17) (io), 32 PD2(INT0/PCINT18) (io)
text: ATtiny88

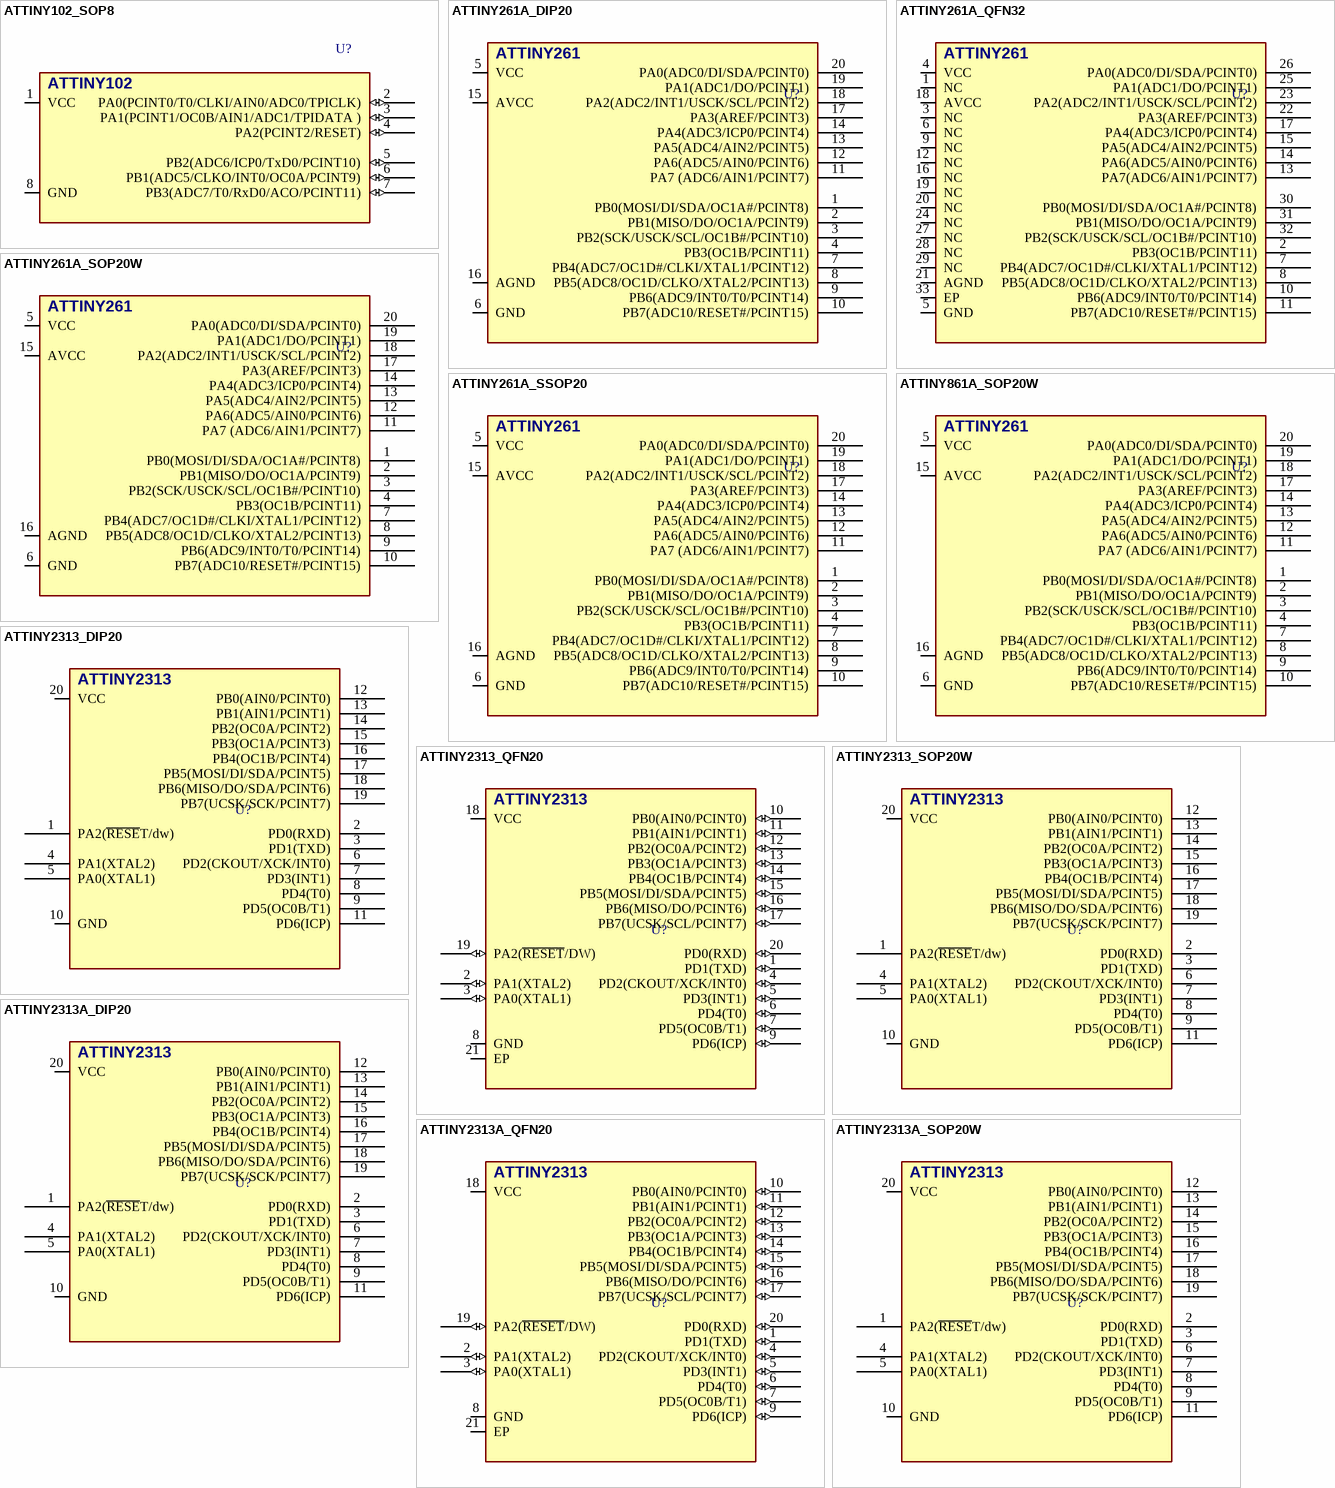
[diagram p2: symbols ATTINY102_SOP8 to ATTINY2313A_SOP20W]

## ATTINY102_SOP8
designator U?, comment ATTINY102  (value not drawn)
MCU, AVR, 8-Bit, 1KB, 32B RAM, 12MHz; MANF_P#: ATTINY102-SSFR; MANF: ATMEL/MICROCHIP; PARAM2: 1.8~5.5V; PARAM: 1KB, 32B RAM, -40~125°C; PRICE: 0.6$; VALUE: ATTINY102
footprint SO_8 (SOP-8, 5x3.9mm body 1.27mm pitch, SOT96-1, M08A, S8, SOIC8, VO8, MS-012AA(JEDEC), R-8, 8S2, VOG8)
pins: 1 VCC (power), 2 PA0(PCINT0/T0/CLKI/AIN0/ADC0/TPICLK) (io), 3 PA1(PCINT1/OC0B/AIN1/ADC1/TPIDATA ) (io), 4 PA2(PCINT2/RESET) (io), 5 PB2(ADC6/ICP0/TxD0/PCINT10) (io), 6 PB1(ADC5/CLKO/INT0/OC0A/PCINT9) (io), 7 PB3(ADC7/T0/RxD0/ACO/PCINT11) (io), 8 GND (power)

## ATTINY261A_DIP20
designator U?, comment ATTINY261  (value not drawn)
MCU, AVR, 8-Bit, 2KB, 128B RAM, 20MHz; MANF_P#: ATTINY261A-PU; MANF: ATMEL/MICROCHIP; PARAM2: 1.8~5.5V; PARAM: 2KB flash, 128B RAM, -40~85°C; PRICE: 1.4$; VALUE: ATTINY261
footprint DIP_20 (DIP, pitch 2.54mm, 300mil Width)
pins: 1 PB0(MOSI/DI/SDA/OC1A#/PCINT8), 2 PB1(MISO/DO/OC1A/PCINT9), 3 PB2(SCK/USCK/SCL/OC1B#/PCINT10), 4 PB3(OC1B/PCINT11), 5 VCC, 6 GND, 7 PB4(ADC7/OC1D#/CLKI/XTAL1/PCINT12), 8 PB5(ADC8/OC1D/CLKO/XTAL2/PCINT13), 9 PB6(ADC9/INT0/T0/PCINT14), 10 PB7(ADC10/RESET#/PCINT15), 11 PA7 (ADC6/AIN1/PCINT7), 12 PA6(ADC5/AIN0/PCINT6), 13 PA5(ADC4/AIN2/PCINT5), 14 PA4(ADC3/ICP0/PCINT4), 15 AVCC, 16 AGND, 17 PA3(AREF/PCINT3), 18 PA2(ADC2/INT1/USCK/SCL/PCINT2), 19 PA1(ADC1/DO/PCINT1), 20 PA0(ADC0/DI/SDA/PCINT0)

## ATTINY261A_QFN32
designator U?, comment ATTINY261  (value not drawn)
MCU, AVR, 8-Bit, 2KB, 128B RAM, 20MHz; MANF_P#: ATTINY261A-M; MANF: ATMEL/MICROCHIP; PARAM2: 1.8~5.5V; PARAM: 2KB flash, 128B RAM, -40~85°C; PRICE: 1.2$; VALUE: ATTINY261
footprint QFN50_32T (QFN, 32, 5X5mm, 0.5mm)
pins: 1 NC, 2 PB3(OC1B/PCINT11), 3 NC, 4 VCC, 5 GND, 6 NC, 7 PB4(ADC7/OC1D#/CLKI/XTAL1/PCINT12), 8 PB5(ADC8/OC1D/CLKO/XTAL2/PCINT13), 9 NC, 10 PB6(ADC9/INT0/T0/PCINT14), 11 PB7(ADC10/RESET#/PCINT15), 12 NC, 13 PA7(ADC6/AIN1/PCINT7), 14 PA6(ADC5/AIN0/PCINT6), 15 PA5(ADC4/AIN2/PCINT5), 16 NC, 17 PA4(ADC3/ICP0/PCINT4), 18 AVCC, 19 NC, 20 NC, 21 AGND, 22 PA3(AREF/PCINT3), 23 PA2(ADC2/INT1/USCK/SCL/PCINT2), 24 NC, 25 PA1(ADC1/DO/PCINT1), 26 PA0(ADC0/DI/SDA/PCINT0), 27 NC, 28 NC, 29 NC, 30 PB0(MOSI/DI/SDA/OC1A#/PCINT8), 31 PB1(MISO/DO/OC1A/PCINT9), 32 PB2(SCK/USCK/SCL/OC1B#/PCINT10), 33 EP

## ATTINY261A_SOP20W
designator U?, comment ATTINY261  (value not drawn)
MCU, AVR, 8-Bit, 2KB, 128B RAM, 20MHz; MANF_P#: ATTINY261A-SU; MANF: ATMEL/MICROCHIP; PARAM2: 1.8~5.5V; PARAM: 2KB flash, 128B RAM, -40~85°C; PRICE: 1.1$; VALUE: ATTINY261
footprint SO_20_W (SOP, SOIC, 7.5mm width, 1.27mm pitch,)
pins: 1 PB0(MOSI/DI/SDA/OC1A#/PCINT8), 2 PB1(MISO/DO/OC1A/PCINT9), 3 PB2(SCK/USCK/SCL/OC1B#/PCINT10), 4 PB3(OC1B/PCINT11), 5 VCC, 6 GND, 7 PB4(ADC7/OC1D#/CLKI/XTAL1/PCINT12), 8 PB5(ADC8/OC1D/CLKO/XTAL2/PCINT13), 9 PB6(ADC9/INT0/T0/PCINT14), 10 PB7(ADC10/RESET#/PCINT15), 11 PA7 (ADC6/AIN1/PCINT7), 12 PA6(ADC5/AIN0/PCINT6), 13 PA5(ADC4/AIN2/PCINT5), 14 PA4(ADC3/ICP0/PCINT4), 15 AVCC, 16 AGND, 17 PA3(AREF/PCINT3), 18 PA2(ADC2/INT1/USCK/SCL/PCINT2), 19 PA1(ADC1/DO/PCINT1), 20 PA0(ADC0/DI/SDA/PCINT0)

## ATTINY261A_SSOP20
designator U?, comment ATTINY261  (value not drawn)
MCU, AVR, 8-Bit, 2KB, 128B RAM, 20MHz; MANF_P#: ATTINY261A-XU; MANF: ATMEL/MICROCHIP; PARAM2: 1.8~5.5V; PARAM: 2KB flash, 128B RAM, -40~85°C; PRICE: 1.2$; VALUE: ATTINY261
footprint SOG65_20 (PW TSSOP (TI), MO-153-AC (JEDEC), 20Lead, pitch: 0.65mm, 6.5x4.4x1.2mm)
pins: 1 PB0(MOSI/DI/SDA/OC1A#/PCINT8), 2 PB1(MISO/DO/OC1A/PCINT9), 3 PB2(SCK/USCK/SCL/OC1B#/PCINT10), 4 PB3(OC1B/PCINT11), 5 VCC, 6 GND, 7 PB4(ADC7/OC1D#/CLKI/XTAL1/PCINT12), 8 PB5(ADC8/OC1D/CLKO/XTAL2/PCINT13), 9 PB6(ADC9/INT0/T0/PCINT14), 10 PB7(ADC10/RESET#/PCINT15), 11 PA7 (ADC6/AIN1/PCINT7), 12 PA6(ADC5/AIN0/PCINT6), 13 PA5(ADC4/AIN2/PCINT5), 14 PA4(ADC3/ICP0/PCINT4), 15 AVCC, 16 AGND, 17 PA3(AREF/PCINT3), 18 PA2(ADC2/INT1/USCK/SCL/PCINT2), 19 PA1(ADC1/DO/PCINT1), 20 PA0(ADC0/DI/SDA/PCINT0)

## ATTINY861A_SOP20W
designator U?, comment ATTINY861  (value not drawn)
MCU, AVR, 8-Bit, 8KB, 128B RAM, 20MHz; MANF_P#: ATTINY861A-SU; MANF: ATMEL/MICROCHIP; PARAM2: 1.8~5.5V; PARAM: 8KB flash, 128B RAM, -40~85°C; PRICE: 1.2$; VALUE: ATTINY861
footprint SO_20_W (SOP, SOIC, 7.5mm width, 1.27mm pitch,)
pins: 1 PB0(MOSI/DI/SDA/OC1A#/PCINT8), 2 PB1(MISO/DO/OC1A/PCINT9), 3 PB2(SCK/USCK/SCL/OC1B#/PCINT10), 4 PB3(OC1B/PCINT11), 5 VCC, 6 GND, 7 PB4(ADC7/OC1D#/CLKI/XTAL1/PCINT12), 8 PB5(ADC8/OC1D/CLKO/XTAL2/PCINT13), 9 PB6(ADC9/INT0/T0/PCINT14), 10 PB7(ADC10/RESET#/PCINT15), 11 PA7 (ADC6/AIN1/PCINT7), 12 PA6(ADC5/AIN0/PCINT6), 13 PA5(ADC4/AIN2/PCINT5), 14 PA4(ADC3/ICP0/PCINT4), 15 AVCC, 16 AGND, 17 PA3(AREF/PCINT3), 18 PA2(ADC2/INT1/USCK/SCL/PCINT2), 19 PA1(ADC1/DO/PCINT1), 20 PA0(ADC0/DI/SDA/PCINT0)
text: ATTINY261

## ATTINY2313_DIP20
designator U?, comment ATTINY2313  (value not drawn)
MCU, AVR, 8-Bit, 2KB, 128B RAM, 20MHz; MANF_P#: ATTINY2313-20PU; MANF: ATMEL/MICROCHIP; PARAM2: 2.7~5.5V; PARAM: 2KB, 128B RAM, -40~85°C; PRICE: 1.6$; VALUE: ATTINY2313
footprint DIP_20 (DIP, pitch 2.54mm, 300mil Width)
pins: 1 PA2(~{RESE}T/dw), 2 PD0(RXD), 3 PD1(TXD), 4 PA1(XTAL2), 5 PA0(XTAL1), 6 PD2(CKOUT/XCK/INT0), 7 PD3(INT1), 8 PD4(T0), 9 PD5(OC0B/T1), 10 GND, 11 PD6(ICP), 12 PB0(AIN0/PCINT0), 13 PB1(AIN1/PCINT1), 14 PB2(OC0A/PCINT2), 15 PB3(OC1A/PCINT3), 16 PB4(OC1B/PCINT4), 17 PB5(MOSI/DI/SDA/PCINT5), 18 PB6(MISO/DO/SDA/PCINT6), 19 PB7(UCSK/SCK/PCINT7), 20 VCC

## ATTINY2313_QFN20
designator U?, comment ATTINY2313  (value not drawn)
MCU, AVR, 8-Bit, 2KB, 128B RAM, 20MHz; MANF_P#: ATTINY2313-20MU; MANF: ATMEL/MICROCHIP; PARAM2: 2.7~5.5V; PARAM: 2KB, 128B RAM, -40~85°C; PRICE: 1.6$; VALUE: ATTINY2313
footprint QFN50_20T (QFN, 20, 4X4mm, 0.5mm)
pins: 1 PD1(TXD) (io), 2 PA1(XTAL2) (io), 3 PA0(XTAL1) (io), 4 PD2(CKOUT/XCK/INT0) (io), 5 PD3(INT1) (io), 6 PD4(T0) (io), 7 PD5(OC0B/T1) (io), 8 GND (power), 9 PD6(ICP) (io), 10 PB0(AIN0/PCINT0) (io), 11 PB1(AIN1/PCINT1) (io), 12 PB2(OC0A/PCINT2) (io), 13 PB3(OC1A/PCINT3) (io), 14 PB4(OC1B/PCINT4) (io), 15 PB5(MOSI/DI/SDA/PCINT5) (io), 16 PB6(MISO/DO/PCINT6) (io), 17 PB7(UCSK/SCL/PCINT7) (io), 18 VCC (power), 19 PA2(~{RESET}/DW) (io), 20 PD0(RXD) (io), 21 EP (power)

## ATTINY2313_SOP20W
designator U?, comment ATTINY2313  (value not drawn)
MCU, AVR, 8-Bit, 2KB, 128B RAM, 20MHz; MANF_P#: ATTINY2313-20SU; MANF: ATMEL/MICROCHIP; PARAM2: 2.7~5.5V; PARAM: 2KB, 128B RAM, -40~85°C; PRICE: 1.6$; VALUE: ATTINY2313
footprint SO_20_W (SOP, SOIC, 7.5mm width, 1.27mm pitch,)
pins: 1 PA2(~{RESE}T/dw), 2 PD0(RXD), 3 PD1(TXD), 4 PA1(XTAL2), 5 PA0(XTAL1), 6 PD2(CKOUT/XCK/INT0), 7 PD3(INT1), 8 PD4(T0), 9 PD5(OC0B/T1), 10 GND, 11 PD6(ICP), 12 PB0(AIN0/PCINT0), 13 PB1(AIN1/PCINT1), 14 PB2(OC0A/PCINT2), 15 PB3(OC1A/PCINT3), 16 PB4(OC1B/PCINT4), 17 PB5(MOSI/DI/SDA/PCINT5), 18 PB6(MISO/DO/SDA/PCINT6), 19 PB7(UCSK/SCK/PCINT7), 20 VCC

## ATTINY2313A_DIP20
designator U?, comment ATTINY2313
MCU, AVR, 8-Bit, 2KB, 128B RAM, 20MHz; MANF_P#: ATTINY2313A-PU; MANF: ATMEL/MICROCHIP; PARAM2: 1.8~5.5V; PARAM: 2KB, 128B RAM, -40~85°C; PRICE: 1.6$; VALUE: ATTINY2313
footprint DIP_20 (DIP, pitch 2.54mm, 300mil Width)
pins: 1 PA2(~{RESE}T/dw), 2 PD0(RXD), 3 PD1(TXD), 4 PA1(XTAL2), 5 PA0(XTAL1), 6 PD2(CKOUT/XCK/INT0), 7 PD3(INT1), 8 PD4(T0), 9 PD5(OC0B/T1), 10 GND, 11 PD6(ICP), 12 PB0(AIN0/PCINT0), 13 PB1(AIN1/PCINT1), 14 PB2(OC0A/PCINT2), 15 PB3(OC1A/PCINT3), 16 PB4(OC1B/PCINT4), 17 PB5(MOSI/DI/SDA/PCINT5), 18 PB6(MISO/DO/SDA/PCINT6), 19 PB7(UCSK/SCK/PCINT7), 20 VCC

## ATTINY2313A_QFN20
designator U?, comment ATTINY2313  (value not drawn)
MCU, AVR, 8-Bit, 2KB, 128B RAM, 20MHz; MANF_P#: ATTINY2313A-MU; MANF: ATMEL/MICROCHIP; PARAM2: 1.8~5.5V; PARAM: 2KB, 128B RAM, -40~85°C; PRICE: 0.7$; VALUE: ATTINY2313
footprint QFN50_20T (QFN, 20, 4X4mm, 0.5mm)
pins: 1 PD1(TXD) (io), 2 PA1(XTAL2) (io), 3 PA0(XTAL1) (io), 4 PD2(CKOUT/XCK/INT0) (io), 5 PD3(INT1) (io), 6 PD4(T0) (io), 7 PD5(OC0B/T1) (io), 8 GND (power), 9 PD6(ICP) (io), 10 PB0(AIN0/PCINT0) (io), 11 PB1(AIN1/PCINT1) (io), 12 PB2(OC0A/PCINT2) (io), 13 PB3(OC1A/PCINT3) (io), 14 PB4(OC1B/PCINT4) (io), 15 PB5(MOSI/DI/SDA/PCINT5) (io), 16 PB6(MISO/DO/PCINT6) (io), 17 PB7(UCSK/SCL/PCINT7) (io), 18 VCC (power), 19 PA2(~{RESET}/DW) (io), 20 PD0(RXD) (io), 21 EP (power)

## ATTINY2313A_SOP20W
designator U?, comment ATTINY2313  (value not drawn)
MCU, AVR, 8-Bit, 2KB, 128B RAM, 20MHz; MANF_P#: ATTINY2313A-SU; MANF: ATMEL/MICROCHIP; PARAM2: 1.8~5.5V; PARAM: 2KB, 128B RAM, -40~85°C; PRICE: 1.1$; VALUE: ATTINY2313
footprint SO_20_W (SOP, SOIC, 7.5mm width, 1.27mm pitch,)
pins: 1 PA2(~{RESE}T/dw), 2 PD0(RXD), 3 PD1(TXD), 4 PA1(XTAL2), 5 PA0(XTAL1), 6 PD2(CKOUT/XCK/INT0), 7 PD3(INT1), 8 PD4(T0), 9 PD5(OC0B/T1), 10 GND, 11 PD6(ICP), 12 PB0(AIN0/PCINT0), 13 PB1(AIN1/PCINT1), 14 PB2(OC0A/PCINT2), 15 PB3(OC1A/PCINT3), 16 PB4(OC1B/PCINT4), 17 PB5(MOSI/DI/SDA/PCINT5), 18 PB6(MISO/DO/SDA/PCINT6), 19 PB7(UCSK/SCK/PCINT7), 20 VCC

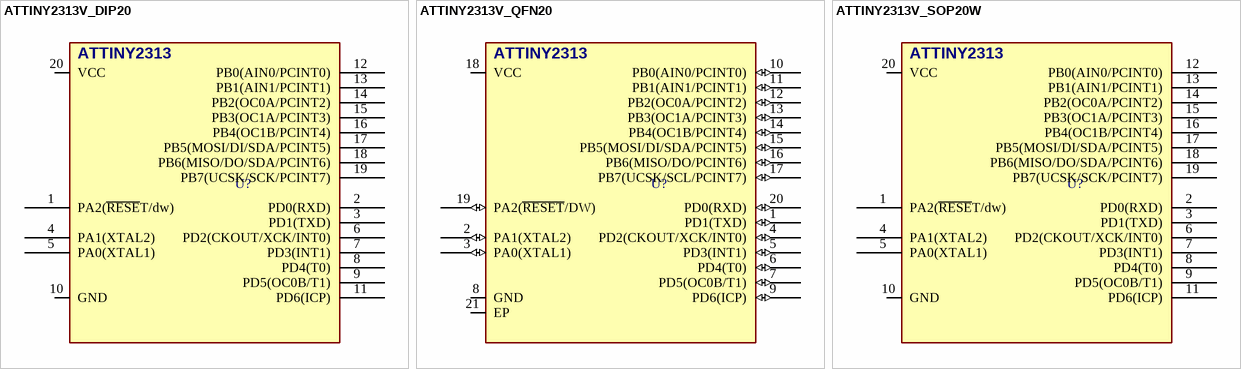
[diagram p3: symbols ATTINY2313V_DIP20 to ATTINY2313V_SOP20W]

## ATTINY2313V_DIP20
designator U?, comment ATTINY2313  (value not drawn)
MCU, AVR, 8-Bit, 2KB, 128B RAM, 10MHz; MANF_P#: ATTINY2313V-10PU; MANF: ATMEL/MICROCHIP; PARAM2: 1.8~5.5V; PARAM: 2KB, 128B RAM, -40~85°C; PRICE: 1.6$; VALUE: ATTINY2313
footprint DIP_20 (DIP, pitch 2.54mm, 300mil Width)
pins: 1 PA2(~{RESE}T/dw), 2 PD0(RXD), 3 PD1(TXD), 4 PA1(XTAL2), 5 PA0(XTAL1), 6 PD2(CKOUT/XCK/INT0), 7 PD3(INT1), 8 PD4(T0), 9 PD5(OC0B/T1), 10 GND, 11 PD6(ICP), 12 PB0(AIN0/PCINT0), 13 PB1(AIN1/PCINT1), 14 PB2(OC0A/PCINT2), 15 PB3(OC1A/PCINT3), 16 PB4(OC1B/PCINT4), 17 PB5(MOSI/DI/SDA/PCINT5), 18 PB6(MISO/DO/SDA/PCINT6), 19 PB7(UCSK/SCK/PCINT7), 20 VCC

## ATTINY2313V_QFN20
designator U?, comment ATTINY2313  (value not drawn)
MCU, AVR, 8-Bit, 2KB, 128B RAM, 10MHz; MANF_P#: ATTINY2313V-10MU; MANF: ATMEL/MICROCHIP; PARAM2: 1.8~5.5V; PARAM: 2KB, 128B RAM, -40~85°C; PRICE: 1.6$; VALUE: ATTINY2313
footprint QFN50_20T (QFN, 20, 4X4mm, 0.5mm)
pins: 1 PD1(TXD) (io), 2 PA1(XTAL2) (io), 3 PA0(XTAL1) (io), 4 PD2(CKOUT/XCK/INT0) (io), 5 PD3(INT1) (io), 6 PD4(T0) (io), 7 PD5(OC0B/T1) (io), 8 GND (power), 9 PD6(ICP) (io), 10 PB0(AIN0/PCINT0) (io), 11 PB1(AIN1/PCINT1) (io), 12 PB2(OC0A/PCINT2) (io), 13 PB3(OC1A/PCINT3) (io), 14 PB4(OC1B/PCINT4) (io), 15 PB5(MOSI/DI/SDA/PCINT5) (io), 16 PB6(MISO/DO/PCINT6) (io), 17 PB7(UCSK/SCL/PCINT7) (io), 18 VCC (power), 19 PA2(~{RESET}/DW) (io), 20 PD0(RXD) (io), 21 EP (power)

## ATTINY2313V_SOP20W
designator U?, comment ATTINY2313  (value not drawn)
MCU, AVR, 8-Bit, 2KB, 128B RAM, 10MHz; MANF_P#: ATTINY2313V-10SU; MANF: ATMEL/MICROCHIP; PARAM2: 1.8~5.5V; PARAM: 2KB, 128B RAM, -40~85°C; PRICE: 1.6$; VALUE: ATTINY2313
footprint SO_20_W (SOP, SOIC, 7.5mm width, 1.27mm pitch,)
pins: 1 PA2(~{RESE}T/dw), 2 PD0(RXD), 3 PD1(TXD), 4 PA1(XTAL2), 5 PA0(XTAL1), 6 PD2(CKOUT/XCK/INT0), 7 PD3(INT1), 8 PD4(T0), 9 PD5(OC0B/T1), 10 GND, 11 PD6(ICP), 12 PB0(AIN0/PCINT0), 13 PB1(AIN1/PCINT1), 14 PB2(OC0A/PCINT2), 15 PB3(OC1A/PCINT3), 16 PB4(OC1B/PCINT4), 17 PB5(MOSI/DI/SDA/PCINT5), 18 PB6(MISO/DO/SDA/PCINT6), 19 PB7(UCSK/SCK/PCINT7), 20 VCC